# Altium footprint library 101-00708.PcbLib: 1 footprints
Each footprint in its own frame and in the unit in brackets; x right, y up, seen from the top. Pads: shape width x height; smd on the part's side, far side on the other; paste and mask are expansions set on the pad; w line width, h text height; cw(c..) or ccw(c..) is an arc to the next point about the centre after c.
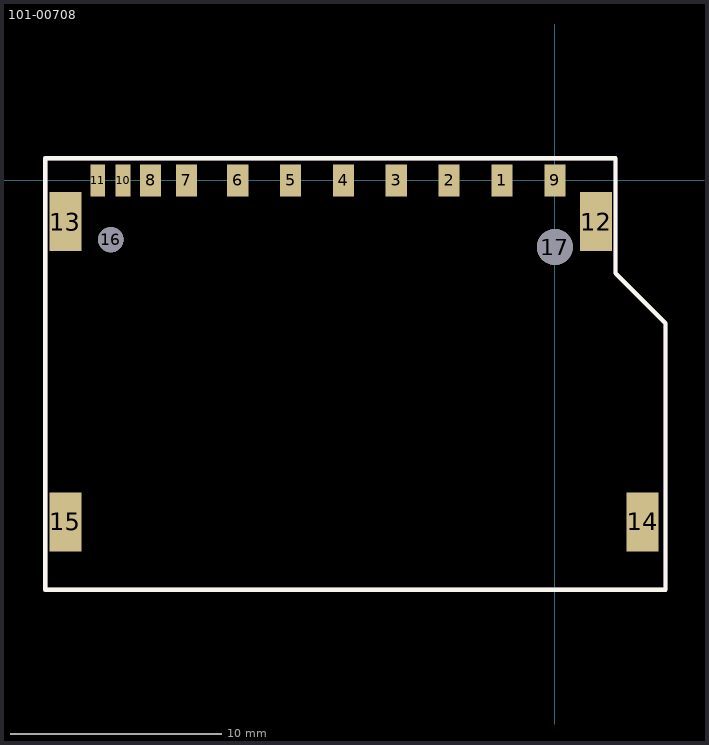
[diagram p0: the footprint, top view; thin cyan lines are the x and y axes]

## 101-00708 [mm] "SD/MMC Connector"
height 0.076
pads (17):
  rect 1x1.499 smd: 1(-2.5,0) 2(-5,0) 3(-7.5,0) 4(-10,0) 5(-12.5,0) 6(-15,0) 7(-17.424,0) 8(-19.125,0) 9(0,0)
  rect 0.7x1.499 smd: 10(-20.425,0) 11(-21.625,0)
  rect 1.499x2.8 smd: 12(1.95,-1.95) 13(-23.15,-1.95) 14(4.15,-16.15) 15(-23.15,-16.15)
  round 1.2 / inner round 1.524 / far side round 1.2 hole 1.2: 16(-21,-2.8)
  round 1.7 / inner round 1.524 / far side round 1.7 hole 1.7: 17(0,-3.15)
Top Overlay:
  lines w0.203: 5.232,-8.433 5.232,-6.756 2.87,-4.394 2.87,1.041 -24.105,1.041 -24.105,-19.355 5.232,-19.355 5.232,-8.382
Mechanical 1:
  lines w0.203: -24.105,-1.596 -24.105,1.041 2.87,1.041 2.87,-4.394 5.232,-6.756 5.232,-19.355 -24.105,-19.355 -24.105,-1.524